# Altium footprint library YDRA-A25-1575.PcbLib: 1 footprints
Each footprint in its own frame and in the unit in brackets; x right, y up, seen from the top. Pads: shape width x height; smd on the part's side, far side on the other; paste and mask are expansions set on the pad; w line width, h text height; cw(c..) or ccw(c..) is an arc to the next point about the centre after c.
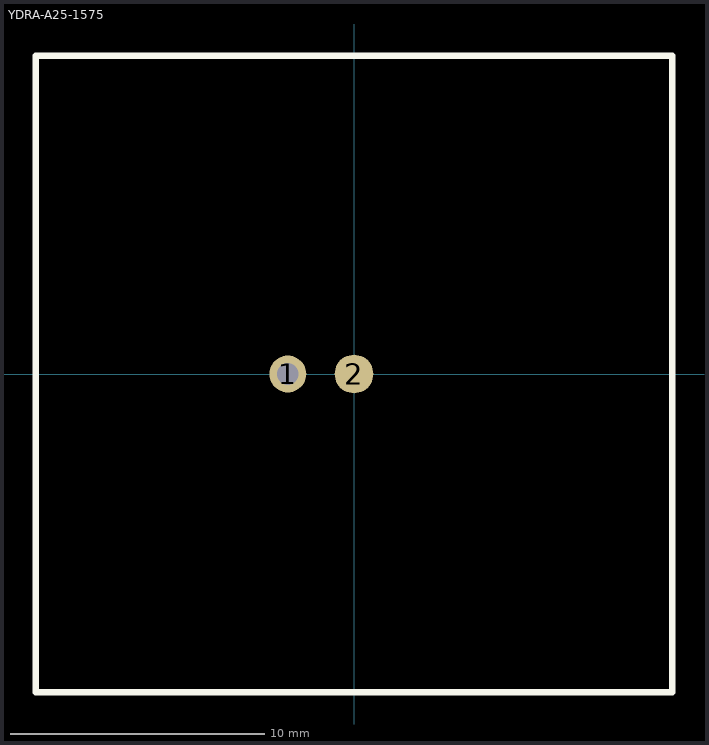
[diagram p0: the footprint, top view; thin cyan lines are the x and y axes]

## YDRA-A25-1575 [mm] "Ceramic Patch Antenna"
pads (2):
  round 1.45 hole 0.85: 1(-2.6,0)
  round 1.524 smd: 2(0,0)
Top Overlay:
  lines w0.254: -12.5,-12.5 -12.5,12.5 12.5,12.5 12.5,-12.5 -12.5,-12.5
3D body "YDRA-A25-1575.STEP": height 5, standoff -3, extent -12.5,-12.5 12.5,12.5